# EAGLE library part FIDO1100-BGA208 (library Innovasic_FIDO)
fido1100 Controller, BGA-208 package
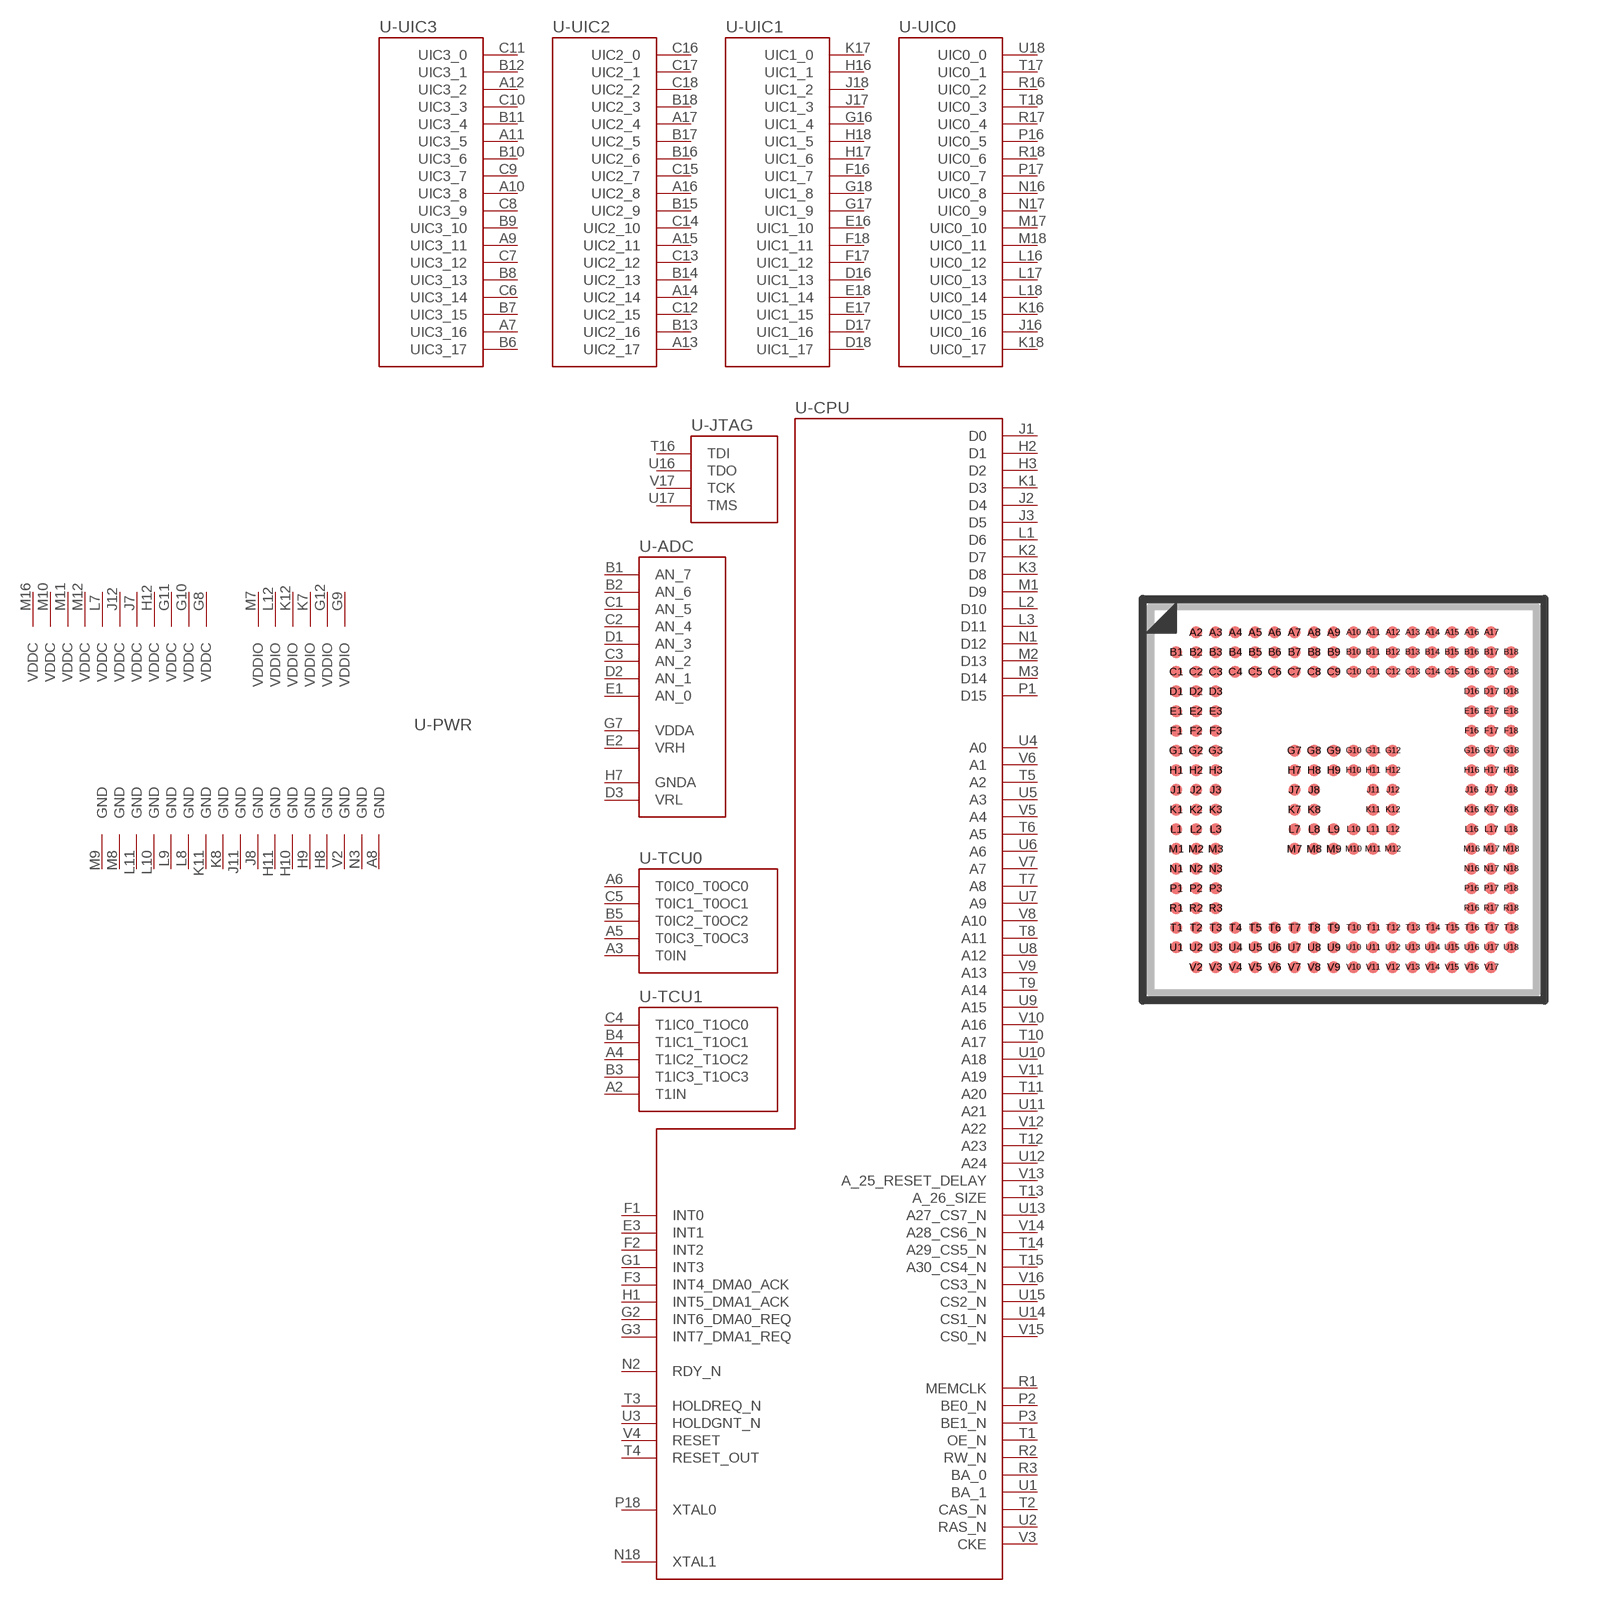
[diagram p1: symbol with the pads of TF208-10X10-01; footprint TF208-10X10-01]

Designator prefix -; gates -CPU=CPU -ADC=ADC -JTAG=JTAG -PWR=PWR-BGA -TCU0=TCU0 -TCU1=TCU1 -UIC0=UIC0 -UIC1=UIC1 -UIC2=UIC2 -UIC3=UIC3

## FIDO1100-BGA208-BGA208  [TF208-10X10-01]
A2  -TCU1:T1IN  in
A3  -TCU0:T0IN  in
A4  -TCU1:T1IC2_T1OC2
A5  -TCU0:T0IC3_T0OC3
A6  -TCU0:T0IC0_T0OC0
A7  -UIC3:UIC3_16
A8  -PWR:GND  pwr
A9  -UIC3:UIC3_11
A10  -UIC3:UIC3_8
A11  -UIC3:UIC3_5
A12  -UIC3:UIC3_2
A13  -UIC2:UIC2_17
A14  -UIC2:UIC2_14
A15  -UIC2:UIC2_11
A16  -UIC2:UIC2_8
A17  -UIC2:UIC2_4
B1  -ADC:AN_7  in
B2  -ADC:AN_6  in
B3  -TCU1:T1IC3_T1OC3
B4  -TCU1:T1IC1_T1OC1
B5  -TCU0:T0IC2_T0OC2
B6  -UIC3:UIC3_17
B7  -UIC3:UIC3_15
B8  -UIC3:UIC3_13
B9  -UIC3:UIC3_10
B10  -UIC3:UIC3_6
B11  -UIC3:UIC3_4
B12  -UIC3:UIC3_1
B13  -UIC2:UIC2_16
B14  -UIC2:UIC2_13
B15  -UIC2:UIC2_9
B16  -UIC2:UIC2_6
B17  -UIC2:UIC2_5
B18  -UIC2:UIC2_3
C1  -ADC:AN_5  in
C2  -ADC:AN_4  in
C3  -ADC:AN_2  in
C4  -TCU1:T1IC0_T1OC0
C5  -TCU0:T0IC1_T0OC1
C6  -UIC3:UIC3_14
C7  -UIC3:UIC3_12
C8  -UIC3:UIC3_9
C9  -UIC3:UIC3_7
C10  -UIC3:UIC3_3
C11  -UIC3:UIC3_0
C12  -UIC2:UIC2_15
C13  -UIC2:UIC2_12
C14  -UIC2:UIC2_10
C15  -UIC2:UIC2_7
C16  -UIC2:UIC2_0
C17  -UIC2:UIC2_1
C18  -UIC2:UIC2_2
D1  -ADC:AN_3  in
D2  -ADC:AN_1  in
D3  -ADC:VRL  in
D16  -UIC1:UIC1_13
D17  -UIC1:UIC1_16
D18  -UIC1:UIC1_17
E1  -ADC:AN_0  in
E2  -ADC:VRH  in
E3  -CPU:INT1  in
E16  -UIC1:UIC1_10
E17  -UIC1:UIC1_15
E18  -UIC1:UIC1_14
F1  -CPU:INT0  in
F2  -CPU:INT2  in
F3  -CPU:INT4_DMA0_ACK
F16  -UIC1:UIC1_7
F17  -UIC1:UIC1_12
F18  -UIC1:UIC1_11
G1  -CPU:INT3  in
G2  -CPU:INT6_DMA0_REQ  in
G3  -CPU:INT7_DMA1_REQ  in
G7  -ADC:VDDA  pwr
G8  -PWR:VDDC  pwr
G9  -PWR:VDDIO  pwr
G10  -PWR:VDDC  pwr
G11  -PWR:VDDC  pwr
G12  -PWR:VDDIO  pwr
G16  -UIC1:UIC1_4
G17  -UIC1:UIC1_9
G18  -UIC1:UIC1_8
H1  -CPU:INT5_DMA1_ACK
H2  -CPU:D1
H3  -CPU:D2
H7  -ADC:GNDA  pwr
H8  -PWR:GND  pwr
H9  -PWR:GND  pwr
H10  -PWR:GND  pwr
H11  -PWR:GND  pwr
H12  -PWR:VDDC  pwr
H16  -UIC1:UIC1_1
H17  -UIC1:UIC1_6
H18  -UIC1:UIC1_5
J1  -CPU:D0
J2  -CPU:D4
J3  -CPU:D5
J7  -PWR:VDDC  pwr
J8  -PWR:GND  pwr
J11  -PWR:GND  pwr
J12  -PWR:VDDC  pwr
J16  -UIC0:UIC0_16
J17  -UIC1:UIC1_3
J18  -UIC1:UIC1_2
K1  -CPU:D3
K2  -CPU:D7
K3  -CPU:D8
K7  -PWR:VDDIO  pwr
K8  -PWR:GND  pwr
K11  -PWR:GND  pwr
K12  -PWR:VDDIO  pwr
K16  -UIC0:UIC0_15
K17  -UIC1:UIC1_0
K18  -UIC0:UIC0_17
L1  -CPU:D6
L2  -CPU:D10
L3  -CPU:D11
L7  -PWR:VDDC  pwr
L8  -PWR:GND  pwr
L9  -PWR:GND  pwr
L10  -PWR:GND  pwr
L11  -PWR:GND  pwr
L12  -PWR:VDDIO  pwr
L16  -UIC0:UIC0_12
L17  -UIC0:UIC0_13
L18  -UIC0:UIC0_14
M1  -CPU:D9
M2  -CPU:D13
M3  -CPU:D14
M7  -PWR:VDDIO  pwr
M8  -PWR:GND  pwr
M9  -PWR:GND  pwr
M10  -PWR:VDDC  pwr
M11  -PWR:VDDC  pwr
M12  -PWR:VDDC  pwr
M16  -PWR:VDDC  pwr
M17  -UIC0:UIC0_10
M18  -UIC0:UIC0_11
N1  -CPU:D12
N2  -CPU:RDY_N  in
N3  -PWR:GND  pwr
N16  -UIC0:UIC0_8
N17  -UIC0:UIC0_9
N18  -CPU:XTAL1  pas
P1  -CPU:D15
P2  -CPU:BE0_N  out
P3  -CPU:BE1_N  out
P16  -UIC0:UIC0_5
P17  -UIC0:UIC0_7
P18  -CPU:XTAL0  pas
R1  -CPU:MEMCLK  out
R2  -CPU:RW_N  out
R3  -CPU:BA_0  out
R16  -UIC0:UIC0_2
R17  -UIC0:UIC0_4
R18  -UIC0:UIC0_6
T1  -CPU:OE_N  out
T2  -CPU:CAS_N  out
T3  -CPU:HOLDREQ_N  in
T4  -CPU:RESET_OUT  out
T5  -CPU:A2  out
T6  -CPU:A5  out
T7  -CPU:A8  out
T8  -CPU:A11  out
T9  -CPU:A14  out
T10  -CPU:A17  out
T11  -CPU:A20  out
T12  -CPU:A23  out
T13  -CPU:A_26_SIZE  pas
T14  -CPU:A29_CS5_N  out
T15  -CPU:A30_CS4_N  out
T16  -JTAG:TDI  in
T17  -UIC0:UIC0_1
T18  -UIC0:UIC0_3
U1  -CPU:BA_1  out
U2  -CPU:RAS_N  out
U3  -CPU:HOLDGNT_N  out
U4  -CPU:A0  out
U5  -CPU:A3  out
U6  -CPU:A6  out
U7  -CPU:A9  out
U8  -CPU:A12  out
U9  -CPU:A15  out
U10  -CPU:A18  out
U11  -CPU:A21  out
U12  -CPU:A24  out
U13  -CPU:A27_CS7_N  out
U14  -CPU:CS1_N  out
U15  -CPU:CS2_N  out
U16  -JTAG:TDO  out
U17  -JTAG:TMS  in
U18  -UIC0:UIC0_0
V2  -PWR:GND  pwr
V3  -CPU:CKE  out
V4  -CPU:RESET  in
V5  -CPU:A4  out
V6  -CPU:A1  out
V7  -CPU:A7  out
V8  -CPU:A10  out
V9  -CPU:A13  out
V10  -CPU:A16  out
V11  -CPU:A19  out
V12  -CPU:A22  out
V13  -CPU:A_25_RESET_DELAY  pas
V14  -CPU:A28_CS6_N  out
V15  -CPU:CS0_N  out
V16  -CPU:CS3_N  out
V17  -JTAG:TCK  in

## Footprint TF208-10X10-01 (pad centres in mm)
208-Lead TFBGA (10 x 10mm) Faraday Technology Corporation
smd 0.3 x 0.3: A2 -3.75,4.25; A3 -3.25,4.25; A4 -2.75,4.25; A5 -2.25,4.25; A6 -1.75,4.25; A7 -1.25,4.25; A8 -0.75,4.25; A9 -0.25,4.25; A10 0.25,4.25; A11 0.75,4.25; A12 1.25,4.25; A13 1.75,4.25; A14 2.25,4.25; A15 2.75,4.25; A16 3.25,4.25; A17 3.75,4.25; B1 -4.25,3.75; B2 -3.75,3.75; B3 -3.25,3.75; B4 -2.75,3.75; B5 -2.25,3.75; B6 -1.75,3.75; B7 -1.25,3.75; B8 -0.75,3.75; B9 -0.25,3.75; B10 0.25,3.75; B11 0.75,3.75; B12 1.25,3.75; B13 1.75,3.75; B14 2.25,3.75; B15 2.75,3.75; B16 3.25,3.75; B17 3.75,3.75; B18 4.25,3.75; C1 -4.25,3.25; C2 -3.75,3.25; C3 -3.25,3.25; C4 -2.75,3.25; C5 -2.25,3.25; C6 -1.75,3.25; C7 -1.25,3.25; C8 -0.75,3.25; C9 -0.25,3.25; C10 0.25,3.25; C11 0.75,3.25; C12 1.25,3.25; C13 1.75,3.25; C14 2.25,3.25; C15 2.75,3.25; C16 3.25,3.25; C17 3.75,3.25; C18 4.25,3.25; D1 -4.25,2.75; D2 -3.75,2.75; D3 -3.25,2.75; D16 3.25,2.75; D17 3.75,2.75; D18 4.25,2.75; E1 -4.25,2.25; E2 -3.75,2.25; E3 -3.25,2.25; E16 3.25,2.25; E17 3.75,2.25; E18 4.25,2.25; F1 -4.25,1.75; F2 -3.75,1.75; F3 -3.25,1.75; F16 3.25,1.75; F17 3.75,1.75; F18 4.25,1.75; G1 -4.25,1.25; G2 -3.75,1.25; G3 -3.25,1.25; G7 -1.25,1.25; G8 -0.75,1.25; G9 -0.25,1.25; G10 0.25,1.25; G11 0.75,1.25; G12 1.25,1.25; G16 3.25,1.25; G17 3.75,1.25; G18 4.25,1.25; H1 -4.25,0.75; H2 -3.75,0.75; H3 -3.25,0.75; H7 -1.25,0.75; H8 -0.75,0.75; H9 -0.25,0.75; H10 0.25,0.75; H11 0.75,0.75; H12 1.25,0.75; H16 3.25,0.75; H17 3.75,0.75; H18 4.25,0.75; J1 -4.25,0.25; J2 -3.75,0.25; J3 -3.25,0.25; J7 -1.25,0.25; J8 -0.75,0.25; J11 0.75,0.25; J12 1.25,0.25; J16 3.25,0.25; J17 3.75,0.25; J18 4.25,0.25; K1 -4.25,-0.25; K2 -3.75,-0.25; K3 -3.25,-0.25; K7 -1.25,-0.25; K8 -0.75,-0.25; K11 0.75,-0.25; K12 1.25,-0.25; K16 3.25,-0.25; K17 3.75,-0.25; K18 4.25,-0.25; L1 -4.25,-0.75; L2 -3.75,-0.75; L3 -3.25,-0.75; L7 -1.25,-0.75; L8 -0.75,-0.75; L9 -0.25,-0.75; L10 0.25,-0.75; L11 0.75,-0.75; L12 1.25,-0.75; L16 3.25,-0.75; L17 3.75,-0.75; L18 4.25,-0.75; M1 -4.25,-1.25; M2 -3.75,-1.25; M3 -3.25,-1.25; M7 -1.25,-1.25; M8 -0.75,-1.25; M9 -0.25,-1.25; M10 0.25,-1.25; M11 0.75,-1.25; M12 1.25,-1.25; M16 3.25,-1.25; M17 3.75,-1.25; M18 4.25,-1.25; N1 -4.25,-1.75; N2 -3.75,-1.75; N3 -3.25,-1.75; N16 3.25,-1.75; N17 3.75,-1.75; N18 4.25,-1.75; P1 -4.25,-2.25; P2 -3.75,-2.25; P3 -3.25,-2.25; P16 3.25,-2.25; P17 3.75,-2.25; P18 4.25,-2.25; R1 -4.25,-2.75; R2 -3.75,-2.75; R3 -3.25,-2.75; R16 3.25,-2.75; R17 3.75,-2.75; R18 4.25,-2.75; T1 -4.25,-3.25; T2 -3.75,-3.25; T3 -3.25,-3.25; T4 -2.75,-3.25; T5 -2.25,-3.25; T6 -1.75,-3.25; T7 -1.25,-3.25; T8 -0.75,-3.25; T9 -0.25,-3.25; T10 0.25,-3.25; T11 0.75,-3.25; T12 1.25,-3.25; T13 1.75,-3.25; T14 2.25,-3.25; T15 2.75,-3.25; T16 3.25,-3.25; T17 3.75,-3.25; T18 4.25,-3.25; U1 -4.25,-3.75; U2 -3.75,-3.75; U3 -3.25,-3.75; U4 -2.75,-3.75; U5 -2.25,-3.75; U6 -1.75,-3.75; U7 -1.25,-3.75; U8 -0.75,-3.75; U9 -0.25,-3.75; U10 0.25,-3.75; U11 0.75,-3.75; U12 1.25,-3.75; U13 1.75,-3.75; U14 2.25,-3.75; U15 2.75,-3.75; U16 3.25,-3.75; U17 3.75,-3.75; U18 4.25,-3.75; V2 -3.75,-4.25; V3 -3.25,-4.25; V4 -2.75,-4.25; V5 -2.25,-4.25; V6 -1.75,-4.25; V7 -1.25,-4.25; V8 -0.75,-4.25; V9 -0.25,-4.25; V10 0.25,-4.25; V11 0.75,-4.25; V12 1.25,-4.25; V13 1.75,-4.25; V14 2.25,-4.25; V15 2.75,-4.25; V16 3.25,-4.25; V17 3.75,-4.25